# EAGLE library part GRID-EYE-DIP (library LUJAN)
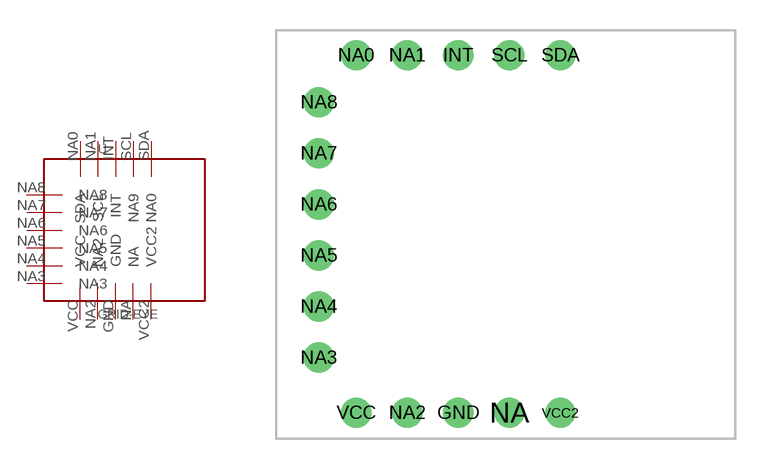
[diagram p1: symbol with the pads of GRID-EYE-DIP; footprint GRID-EYE-DIP]

Designator prefix -

## GRID-EYE-DIP  [GRID-EYE-DIP]
GND  GND
INT  INT
NA  NA
NA0  SDA
NA1  SCL
NA2  NA2
NA3  NA3
NA4  NA4
NA5  NA5
NA6  NA6
NA7  NA7
NA8  NA8
SCL  NA9
SDA  NA0
VCC  VCC
VCC2  VCC2

## Footprint GRID-EYE-DIP (pad centres in mm)
drill 1: GND 0.985,-8.645; INT 0.985,9.135; NA 3.525,-8.645; NA0 -4.095,9.135; NA1 -1.555,9.135; NA2 -1.555,-8.645; NA3 -5.955,-5.905; NA4 -5.955,-3.365; NA5 -5.955,-0.825; NA6 -5.955,1.715; NA7 -5.955,4.255; NA8 -5.955,6.795; SCL 3.525,9.135; SDA 6.065,9.135; VCC -4.095,-8.645; VCC2 6.065,-8.645